# EAGLE library part USBLC6-2 (library Parts)
Very low capacitance ESD protection
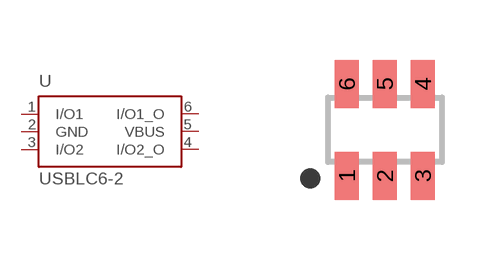
[diagram p28: symbol with the pads of SOT23-6L; footprint SOT23-6L]

Designator prefix U

## USBLC6-2SC6  [SOT23-6L]
1  I/O1
2  GND  pas
3  I/O2
4  I/O2_O
5  VBUS  pas
6  I/O1_O

## Footprint SOT23-6L (pad centres in mm)
Small Outline Transistor SOT23-6L
smd 0.6 x 1.2: 1 -0.95,-1.15; 2 0,-1.15; 3 0.95,-1.15; 4 0.95,1.15; 5 0,1.15; 6 -0.95,1.15